# EAGLE library part ACJS-MHDR (library 2026-10-03_13-19-12_Library)
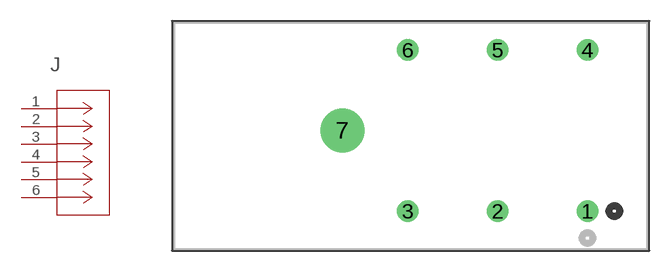
[diagram p0: symbol with the pads of CONN_MHDR_AMP; footprint CONN_MHDR_AMP]

Designator prefix J

## ACJS-MHDRCONN_MHDR_AMP (Copyright: Copyright (C) 2026 Ultra Librarian. All rights reserved.; Manufacturer_Name: Amphenol ICC; Manufacturer_Part_Number: ACJS-MHDR)  [CONN_MHDR_AMP]
1  1  pas
2  2  pas
3  3  pas
4  4  pas
5  5  pas
6  6  pas

## Footprint CONN_MHDR_AMP (pad centres in mm)
drill 0.965 pad 1.524 round: 1 0,0; 2 -6.35,0; 3 -12.7,0; 4 0,11.405; 5 -6.35,11.405; 6 -12.7,11.405
drill 2.108 pad 2.616 round: 7 -17.33,5.702